# EAGLE library part ARDUINO (library post7_arduino)
For creating Arduino shields
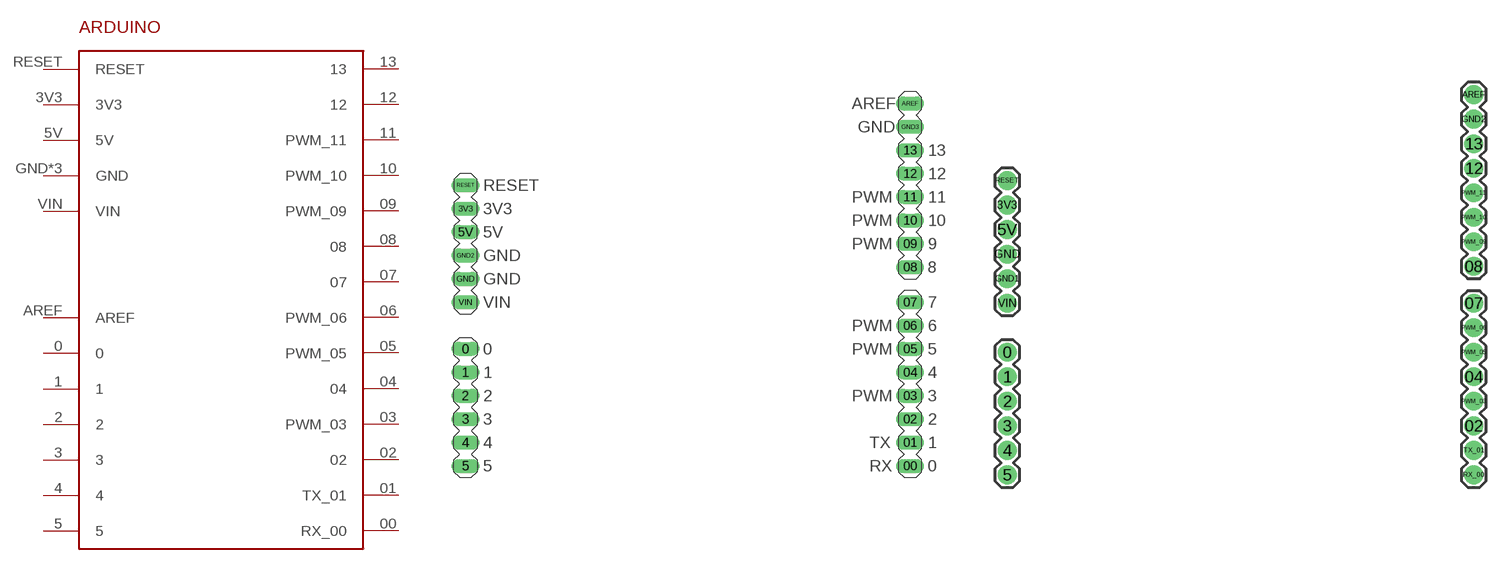
[diagram p0: symbol with the pads of ARDUINO; footprints ARDUINO, ARDUINO2]

Designator prefix ARDUINO

## ARDUINO  [ARDUINO]
0  0
00  RX_00
1  1
01  TX_01
02  02
2  2
3  3
03  PWM_03
3V3  3V3
04  04
4  4
5  5
05  PWM_05
5V  5V
06  PWM_06
07  07
08  08
09  PWM_09
10  PWM_10
11  PWM_11
12  12
13  13
AREF  AREF
GND  GND
GND2  GND
GND3  GND
RESET  RESET
VIN  VIN

## ARDUINO2  [ARDUINO2]
0  0
1  1
02  02
2  2
3  3
3V3  3V3
04  04
4  4
5  5
5V  5V
07  07
08  08
12  12
13  13
AREF  AREF
GND  GND
PWM_03  PWM_03
PWM_05  PWM_05
PWM_06  PWM_06
PWM_09  PWM_09
PWM_10  PWM_10
PWM_11  PWM_11
RESET  RESET
RX_00  RX_00
TX_01  TX_01
VIN  VIN

## Footprint ARDUINO (pad centres in mm)
Use straight headers (2 6-pin and 2 8-pin) to connect to an Arduino
drill 1 long: 00 25.4,-20.32; 0 -22.86,-7.62; 01 25.4,-17.78; 1 -22.86,-10.16; 02 25.4,-15.24; 2 -22.86,-12.7; 03 25.4,-12.7; 3 -22.86,-15.24; 3V3 -22.86,7.62; 04 25.4,-10.16; 4 -22.86,-17.78; 05 25.4,-7.62; 5 -22.86,-20.32; 5V -22.86,5.08; 06 25.4,-5.08; 07 25.4,-2.54; 08 25.4,1.27; 09 25.4,3.81; 10 25.4,6.35; 11 25.4,8.89; 12 25.4,11.43; 13 25.4,13.97; AREF 25.4,19.05; GND -22.86,0; GND2 -22.86,2.54; GND3 25.4,16.51; RESET -22.86,10.16; VIN -22.86,-2.54

## Footprint ARDUINO2 (pad centres in mm)
drill 1 pad 1.93: 0 0,12.7; 1 0,10.16; 2 0,7.62; 02 48.26,5.08; 3 0,5.08; 3V3 0,27.94; 4 0,2.54; 04 48.26,10.16; 5 0,0; 5V 0,25.4; 07 48.26,17.78; 08 48.26,21.59; 12 48.26,31.75; 13 48.26,34.29; AREF 48.26,39.37; GND 0,22.86; GND1 0,20.32; GND2 48.26,36.83; PWM_03 48.26,7.62; PWM_05 48.26,12.7; PWM_06 48.26,15.24; PWM_09 48.26,24.13; PWM_10 48.26,26.67; PWM_11 48.26,29.21; RESET 0,30.48; RX_00 48.26,0; TX_01 48.26,2.54; VIN 0,17.78